# EAGLE library part TSW-104-02-S-D (library pyIMU-03)
THROUGH-HOLE .025" SQ POST HEADER Source: Samtec TSW.pdf
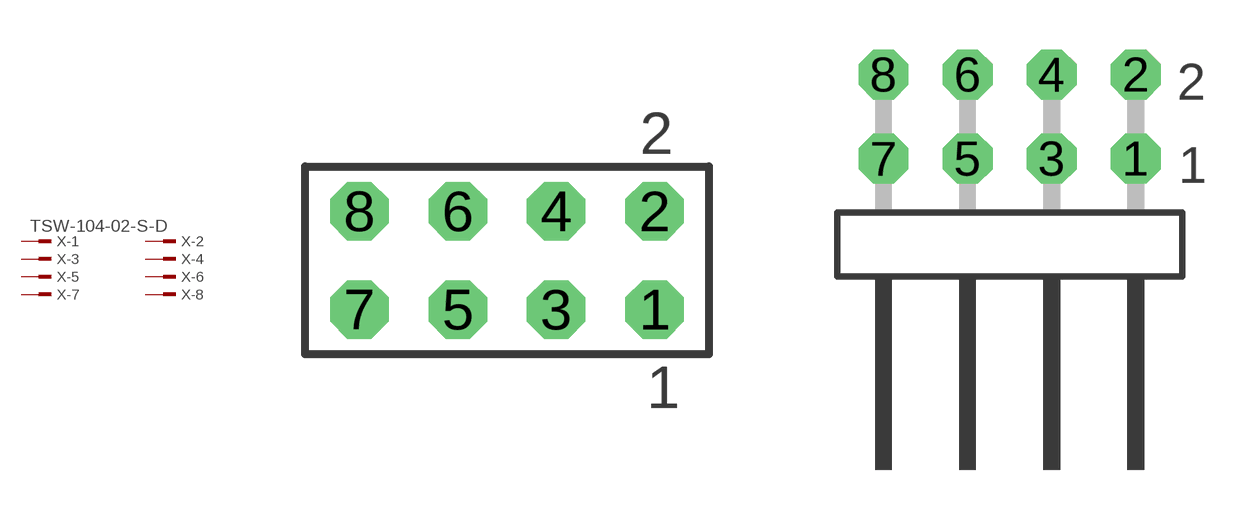
[diagram p1: symbol with the pads of TSW-104-02-S-D; footprints TSW-104-02-S-D, TSW-104-02-S-D-RA]

Designator prefix X; gates -1=MPINV -2=MPIN -3=MPIN -4=MPIN -5=MPIN -6=MPIN -7=MPIN -8=MPIN

## TSW-104-02-S-D (OC_FARNELL: unknown; OC_NEWARK: unknown)  [TSW-104-02-S-D]
1  -1:1  pas
2  -2:1  pas
3  -3:1  pas
4  -4:1  pas
5  -5:1  pas
6  -6:1  pas
7  -7:1  pas
8  -8:1  pas

## TSW-104-02-S-D-RA (OC_FARNELL: unknown; OC_NEWARK: unknown)  [TSW-104-02-S-D-RA]
Pads as for TSW-104-02-S-D

## TSW-104-02-S-D-MOD  [TSW-104-02-S-D-MOD]
Pads as for TSW-104-02-S-D

## Footprint TSW-104-02-S-D (pad centres in mm)
THROUGH-HOLE .025" SQ POST HEADER Source: Samtec TSW.pdf
drill 1 pad 1.5 octagon: 1 3.81,-1.27; 2 3.81,1.27; 3 1.27,-1.27; 4 1.27,1.27; 5 -1.27,-1.27; 6 -1.27,1.27; 7 -3.81,-1.27; 8 -3.81,1.27

## Footprint TSW-104-02-S-D-RA (pad centres in mm)
THROUGH-HOLE .025" SQ POST HEADER Source: Samtec TSW.pdf
drill 1 pad 1.5 octagon: 1 3.81,1.524; 2 3.81,4.064; 3 1.27,1.524; 4 1.27,4.064; 5 -1.27,1.524; 6 -1.27,4.064; 7 -3.81,1.524; 8 -3.81,4.064

## Footprint TSW-104-02-S-D-MOD (pad centres in mm)
drill 1 pad 1.5 octagon: 1 3.81,-1.27; 2 3.81,1.27; 3 1.27,-1.27; 4 1.27,1.27; 5 -1.27,-1.27; 6 -1.27,1.27; 7 -3.81,-1.27; 8 -3.81,1.27